# Altium footprint library HEBoard_ver4.PcbLib: 5 footprints
Each footprint in its own frame and in the unit in brackets; x right, y up, seen from the top. Pads: shape width x height; smd on the part's side, far side on the other; paste and mask are expansions set on the pad; w line width, h text height; cw(c..) or ccw(c..) is an arc to the next point about the centre after c.
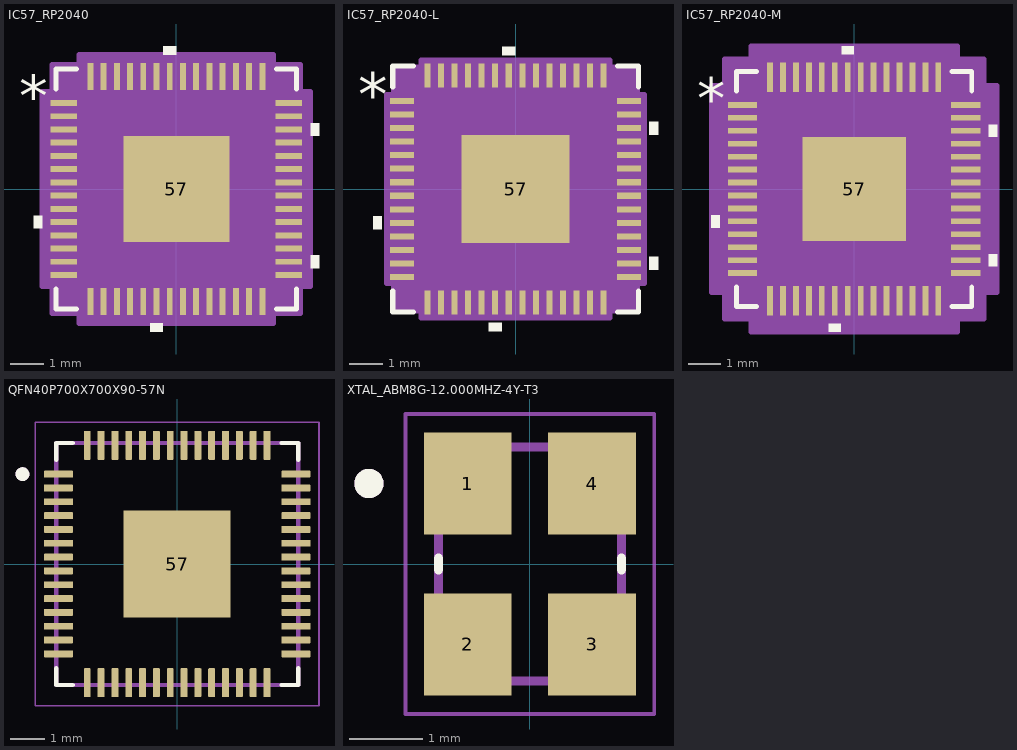
[diagram p0: the footprints below, top view; thin cyan lines are the x and y axes]

## IC57_RP2040 [mm]
pads (57):
  rect 0.808x0.179 smd paste+0 mask+0: 1(-3.401,2.6) 2(-3.401,2.2) 3(-3.401,1.8) 4(-3.401,1.4) 5(-3.401,1) 6(-3.401,0.6) 7(-3.401,0.2) 8(-3.401,-0.2) 9(-3.401,-0.6) 10(-3.401,-1) 11(-3.401,-1.4) 12(-3.401,-1.8) 13(-3.401,-2.2) 14(-3.401,-2.6) 29(3.401,-2.6) 30(3.401,-2.2) 31(3.401,-1.8) 32(3.401,-1.4) 33(3.401,-1) 34(3.401,-0.6) 35(3.401,-0.2) 36(3.401,0.2) 37(3.401,0.6) 38(3.401,1) 39(3.401,1.4) 40(3.401,1.8) 41(3.401,2.2) 42(3.401,2.6)
  rect 0.179x0.808 smd paste+0 mask+0: 15(-2.6,-3.401) 16(-2.2,-3.401) 17(-1.8,-3.401) 18(-1.4,-3.401) 19(-1,-3.401) 20(-0.6,-3.401) 21(-0.2,-3.401) 22(0.2,-3.401) 23(0.6,-3.401) 24(1,-3.401) 25(1.4,-3.401) 26(1.8,-3.401) 27(2.2,-3.401) 28(2.6,-3.401) 43(2.6,3.401) 44(2.2,3.401) 45(1.8,3.401) 46(1.4,3.401) 47(1,3.401) 48(0.6,3.401) 49(0.2,3.401) 50(-0.2,3.401) 51(-0.6,3.401) 52(-1,3.401) 53(-1.4,3.401) 54(-1.8,3.401) 55(-2.2,3.401) 56(-2.6,3.401)
  rect 3.2x3.2 smd paste-1.6 mask+0: 57(0,0)
Top Overlay:
  region: -4.059,-0.81 -4.313,-0.81 -4.313,-1.191 -4.059,-1.191
  region: -0.409,-4.059 -0.79,-4.059 -0.79,-4.313 -0.409,-4.313
  region: 4.059,-2.01 4.313,-2.01 4.313,-2.391 4.059,-2.391
  region: 4.059,1.99 4.313,1.99 4.313,1.609 4.059,1.609
  region: -0.009,4.059 -0.39,4.059 -0.39,4.313 -0.009,4.313
  lines w0.152: -3.632,-3.022 -3.632,-3.632 -3.022,-3.632 ; -3.632,3.022 -3.632,3.632 -3.022,3.632 ; 3.022,-3.632 3.632,-3.632 3.632,-3.022 ; 3.022,3.632 3.632,3.632 3.632,3.022
  text "*" at -4.758,2.165 h1.27
Top Paste:
  region: -0.1,1.5 -1.5,1.5 -1.5,0.1 -0.1,0.1
  region: -0.1,-0.1 -1.5,-0.1 -1.5,-1.5 -0.1,-1.5
  region: 1.5,1.5 0.1,1.5 0.1,0.1 1.5,0.1
  region: 1.5,-0.1 0.1,-0.1 0.1,-1.5 1.5,-1.5
Mechanical 13:
  lines w0.025: -3.505,2.235 -2.235,3.505 ; -3.505,-3.505 3.505,-3.505 3.505,3.505 -3.505,3.505 -3.505,-3.505 ; -3.505,-2.714 -3.505,-2.486 -3.505,-2.714 ; -3.505,-2.314 -3.505,-2.086 -3.505,-2.314 ; -3.505,-1.914 -3.505,-1.686 -3.505,-1.914 ; -3.505,-1.514 -3.505,-1.286 -3.505,-1.514 ; -3.505,-1.114 -3.505,-0.886 -3.505,-1.114 ; -3.505,-0.714 -3.505,-0.486 -3.505,-0.714 ; -3.505,-0.314 -3.505,-0.086 -3.505,-0.314 ; -3.505,0.086 -3.505,0.314 -3.505,0.086 ; -3.505,0.486 -3.505,0.714 -3.505,0.486 ; -3.505,0.886 -3.505,1.114 -3.505,0.886 ; -3.505,1.286 -3.505,1.514 -3.505,1.286 ; -3.505,1.686 -3.505,1.914 -3.505,1.686 ; -3.505,2.086 -3.505,2.314 -3.505,2.086 ; -3.505,2.486 -3.505,2.714 -3.505,2.486 ; -2.714,-3.505 -2.486,-3.505 -2.714,-3.505 ; -2.714,3.505 -2.486,3.505 -2.714,3.505 ; -2.314,-3.505 -2.086,-3.505 -2.314,-3.505 ; -2.314,3.505 -2.086,3.505 -2.314,3.505 ; -1.914,-3.505 -1.686,-3.505 -1.914,-3.505 ; -1.914,3.505 -1.686,3.505 -1.914,3.505 ; -1.514,-3.505 -1.286,-3.505 -1.514,-3.505 ; -1.514,3.505 -1.286,3.505 -1.514,3.505 ; -1.114,-3.505 -0.886,-3.505 -1.114,-3.505 ; -1.114,3.505 -0.886,3.505 -1.114,3.505 ; -0.714,-3.505 -0.486,-3.505 -0.714,-3.505 ; -0.714,3.505 -0.486,3.505 -0.714,3.505 ; -0.314,-3.505 -0.086,-3.505 -0.314,-3.505 ; -0.314,3.505 -0.086,3.505 -0.314,3.505 ; 0.086,-3.505 0.314,-3.505 0.086,-3.505 ; 0.086,3.505 0.314,3.505 0.086,3.505 ; 0.486,-3.505 0.714,-3.505 0.486,-3.505 ; 0.486,3.505 0.714,3.505 0.486,3.505 ; 0.886,-3.505 1.114,-3.505 0.886,-3.505 ; 0.886,3.505 1.114,3.505 0.886,3.505 ; 1.286,-3.505 1.514,-3.505 1.286,-3.505 ; 1.286,3.505 1.514,3.505 1.286,3.505 ; 1.686,-3.505 1.914,-3.505 1.686,-3.505 ; 1.686,3.505 1.914,3.505 1.686,3.505 ; 2.086,-3.505 2.314,-3.505 2.086,-3.505 ; 2.086,3.505 2.314,3.505 2.086,3.505 ; 2.486,-3.505 2.714,-3.505 2.486,-3.505 ; 2.486,3.505 2.714,3.505 2.486,3.505 ; 3.505,-2.714 3.505,-2.486 3.505,-2.714 ; 3.505,-2.314 3.505,-2.086 3.505,-2.314 ; 3.505,-1.914 3.505,-1.686 3.505,-1.914 ; 3.505,-1.514 3.505,-1.286 3.505,-1.514 ; 3.505,-1.114 3.505,-0.886 3.505,-1.114 ; 3.505,-0.714 3.505,-0.486 3.505,-0.714 ; 3.505,-0.314 3.505,-0.086 3.505,-0.314 ; 3.505,0.086 3.505,0.314 3.505,0.086 ; 3.505,0.486 3.505,0.714 3.505,0.486 ; 3.505,0.886 3.505,1.114 3.505,0.886 ; 3.505,1.286 3.505,1.514 3.505,1.286 ; 3.505,1.686 3.505,1.914 3.505,1.686 ; 3.505,2.086 3.505,2.314 3.505,2.086 ; 3.505,2.486 3.505,2.714 3.505,2.486
  text "*" at -3.315,2.165 h1.27
Mechanical 15:
  region: -2.943,-3.759 -3.759,-3.759 -3.759,-2.943 -4.059,-2.943 -4.059,2.943 -3.759,2.943 -3.759,3.759 -2.943,3.759 -2.943,4.059 2.943,4.059 2.943,3.759 3.759,3.759 3.759,2.943 4.059,2.943 4.059,-2.943 3.759,-2.943 3.759,-3.759 2.943,-3.759 2.943,-4.059 -2.943,-4.059
  lines w0.152: -4.059,-2.943 -3.759,-2.943 -3.759,-3.759 -2.943,-3.759 -2.943,-4.059 2.943,-4.059 2.943,-3.759 3.759,-3.759 3.759,-2.943 4.059,-2.943 4.059,2.943 3.759,2.943 3.759,3.759 2.943,3.759 2.943,4.059 -2.943,4.059 -2.943,3.759 -3.759,3.759 -3.759,2.943 -4.059,2.943 -4.059,-2.943
3D body "IC57_RP2040.step": height 0.89, standoff 0, extent -3.505,-3.505 3.505,3.505

## IC57_RP2040-L [mm]
pads (57):
  rect 0.708x0.179 smd paste+0 mask+0: 1(-3.351,2.6) 2(-3.351,2.2) 3(-3.351,1.8) 4(-3.351,1.4) 5(-3.351,1) 6(-3.351,0.6) 7(-3.351,0.2) 8(-3.351,-0.2) 9(-3.351,-0.6) 10(-3.351,-1) 11(-3.351,-1.4) 12(-3.351,-1.8) 13(-3.351,-2.2) 14(-3.351,-2.6) 29(3.351,-2.6) 30(3.351,-2.2) 31(3.351,-1.8) 32(3.351,-1.4) 33(3.351,-1) 34(3.351,-0.6) 35(3.351,-0.2) 36(3.351,0.2) 37(3.351,0.6) 38(3.351,1) 39(3.351,1.4) 40(3.351,1.8) 41(3.351,2.2) 42(3.351,2.6)
  rect 0.179x0.708 smd paste+0 mask+0: 15(-2.6,-3.351) 16(-2.2,-3.351) 17(-1.8,-3.351) 18(-1.4,-3.351) 19(-1,-3.351) 20(-0.6,-3.351) 21(-0.2,-3.351) 22(0.2,-3.351) 23(0.6,-3.351) 24(1,-3.351) 25(1.4,-3.351) 26(1.8,-3.351) 27(2.2,-3.351) 28(2.6,-3.351) 43(2.6,3.351) 44(2.2,3.351) 45(1.8,3.351) 46(1.4,3.351) 47(1,3.351) 48(0.6,3.351) 49(0.2,3.351) 50(-0.2,3.351) 51(-0.6,3.351) 52(-1,3.351) 53(-1.4,3.351) 54(-1.8,3.351) 55(-2.2,3.351) 56(-2.6,3.351)
  rect 3.2x3.2 smd paste-1.6 mask+0: 57(0,0)
Top Overlay:
  region: -3.959,-0.81 -4.213,-0.81 -4.213,-1.191 -3.959,-1.191
  region: -0.409,-3.959 -0.79,-3.959 -0.79,-4.213 -0.409,-4.213
  region: 3.959,-2.01 4.213,-2.01 4.213,-2.391 3.959,-2.391
  region: 3.959,1.99 4.213,1.99 4.213,1.609 3.959,1.609
  region: -0.009,3.959 -0.39,3.959 -0.39,4.213 -0.009,4.213
  lines w0.152: -3.632,-3.022 -3.632,-3.632 -3.022,-3.632 ; -3.632,3.022 -3.632,3.632 -3.022,3.632 ; 3.022,-3.632 3.632,-3.632 3.632,-3.022 ; 3.022,3.632 3.632,3.632 3.632,3.022
  text "*" at -4.658,2.165 h1.27
Top Paste:
  region: -0.1,1.5 -1.5,1.5 -1.5,0.1 -0.1,0.1
  region: -0.1,-0.1 -1.5,-0.1 -1.5,-1.5 -0.1,-1.5
  region: 1.5,1.5 0.1,1.5 0.1,0.1 1.5,0.1
  region: 1.5,-0.1 0.1,-0.1 0.1,-1.5 1.5,-1.5
Mechanical 13:
  lines w0.025: -3.505,2.235 -2.235,3.505 ; -3.505,-3.505 3.505,-3.505 3.505,3.505 -3.505,3.505 -3.505,-3.505 ; -3.505,-2.714 -3.505,-2.486 -3.505,-2.714 ; -3.505,-2.314 -3.505,-2.086 -3.505,-2.314 ; -3.505,-1.914 -3.505,-1.686 -3.505,-1.914 ; -3.505,-1.514 -3.505,-1.286 -3.505,-1.514 ; -3.505,-1.114 -3.505,-0.886 -3.505,-1.114 ; -3.505,-0.714 -3.505,-0.486 -3.505,-0.714 ; -3.505,-0.314 -3.505,-0.086 -3.505,-0.314 ; -3.505,0.086 -3.505,0.314 -3.505,0.086 ; -3.505,0.486 -3.505,0.714 -3.505,0.486 ; -3.505,0.886 -3.505,1.114 -3.505,0.886 ; -3.505,1.286 -3.505,1.514 -3.505,1.286 ; -3.505,1.686 -3.505,1.914 -3.505,1.686 ; -3.505,2.086 -3.505,2.314 -3.505,2.086 ; -3.505,2.486 -3.505,2.714 -3.505,2.486 ; -2.714,-3.505 -2.486,-3.505 -2.714,-3.505 ; -2.714,3.505 -2.486,3.505 -2.714,3.505 ; -2.314,-3.505 -2.086,-3.505 -2.314,-3.505 ; -2.314,3.505 -2.086,3.505 -2.314,3.505 ; -1.914,-3.505 -1.686,-3.505 -1.914,-3.505 ; -1.914,3.505 -1.686,3.505 -1.914,3.505 ; -1.514,-3.505 -1.286,-3.505 -1.514,-3.505 ; -1.514,3.505 -1.286,3.505 -1.514,3.505 ; -1.114,-3.505 -0.886,-3.505 -1.114,-3.505 ; -1.114,3.505 -0.886,3.505 -1.114,3.505 ; -0.714,-3.505 -0.486,-3.505 -0.714,-3.505 ; -0.714,3.505 -0.486,3.505 -0.714,3.505 ; -0.314,-3.505 -0.086,-3.505 -0.314,-3.505 ; -0.314,3.505 -0.086,3.505 -0.314,3.505 ; 0.086,-3.505 0.314,-3.505 0.086,-3.505 ; 0.086,3.505 0.314,3.505 0.086,3.505 ; 0.486,-3.505 0.714,-3.505 0.486,-3.505 ; 0.486,3.505 0.714,3.505 0.486,3.505 ; 0.886,-3.505 1.114,-3.505 0.886,-3.505 ; 0.886,3.505 1.114,3.505 0.886,3.505 ; 1.286,-3.505 1.514,-3.505 1.286,-3.505 ; 1.286,3.505 1.514,3.505 1.286,3.505 ; 1.686,-3.505 1.914,-3.505 1.686,-3.505 ; 1.686,3.505 1.914,3.505 1.686,3.505 ; 2.086,-3.505 2.314,-3.505 2.086,-3.505 ; 2.086,3.505 2.314,3.505 2.086,3.505 ; 2.486,-3.505 2.714,-3.505 2.486,-3.505 ; 2.486,3.505 2.714,3.505 2.486,3.505 ; 3.505,-2.714 3.505,-2.486 3.505,-2.714 ; 3.505,-2.314 3.505,-2.086 3.505,-2.314 ; 3.505,-1.914 3.505,-1.686 3.505,-1.914 ; 3.505,-1.514 3.505,-1.286 3.505,-1.514 ; 3.505,-1.114 3.505,-0.886 3.505,-1.114 ; 3.505,-0.714 3.505,-0.486 3.505,-0.714 ; 3.505,-0.314 3.505,-0.086 3.505,-0.314 ; 3.505,0.086 3.505,0.314 3.505,0.086 ; 3.505,0.486 3.505,0.714 3.505,0.486 ; 3.505,0.886 3.505,1.114 3.505,0.886 ; 3.505,1.286 3.505,1.514 3.505,1.286 ; 3.505,1.686 3.505,1.914 3.505,1.686 ; 3.505,2.086 3.505,2.314 3.505,2.086 ; 3.505,2.486 3.505,2.714 3.505,2.486
  text "*" at -3.315,2.165 h1.27
Mechanical 15:
  region: -2.791,-3.607 -3.607,-3.607 -3.607,-2.791 -3.807,-2.791 -3.807,2.791 -3.607,2.791 -3.607,3.607 -2.791,3.607 -2.791,3.807 2.791,3.807 2.791,3.607 3.607,3.607 3.607,2.791 3.807,2.791 3.807,-2.791 3.607,-2.791 3.607,-3.607 2.791,-3.607 2.791,-3.807 -2.791,-3.807
  lines w0.152: -3.807,-2.791 -3.607,-2.791 -3.607,-3.607 -2.791,-3.607 -2.791,-3.807 2.791,-3.807 2.791,-3.607 3.607,-3.607 3.607,-2.791 3.807,-2.791 3.807,2.791 3.607,2.791 3.607,3.607 2.791,3.607 2.791,3.807 -2.791,3.807 -2.791,3.607 -3.607,3.607 -3.607,2.791 -3.807,2.791 -3.807,-2.791
3D body "IC57_RP2040.step": height 0.89, standoff 0, extent -3.505,-3.505 3.505,3.505

## IC57_RP2040-M [mm]
pads (57):
  rect 0.908x0.179 smd paste+0 mask+0: 1(-3.451,2.6) 2(-3.451,2.2) 3(-3.451,1.8) 4(-3.451,1.4) 5(-3.451,1) 6(-3.451,0.6) 7(-3.451,0.2) 8(-3.451,-0.2) 9(-3.451,-0.6) 10(-3.451,-1) 11(-3.451,-1.4) 12(-3.451,-1.8) 13(-3.451,-2.2) 14(-3.451,-2.6) 29(3.451,-2.6) 30(3.451,-2.2) 31(3.451,-1.8) 32(3.451,-1.4) 33(3.451,-1) 34(3.451,-0.6) 35(3.451,-0.2) 36(3.451,0.2) 37(3.451,0.6) 38(3.451,1) 39(3.451,1.4) 40(3.451,1.8) 41(3.451,2.2) 42(3.451,2.6)
  rect 0.179x0.908 smd paste+0 mask+0: 15(-2.6,-3.451) 16(-2.2,-3.451) 17(-1.8,-3.451) 18(-1.4,-3.451) 19(-1,-3.451) 20(-0.6,-3.451) 21(-0.2,-3.451) 22(0.2,-3.451) 23(0.6,-3.451) 24(1,-3.451) 25(1.4,-3.451) 26(1.8,-3.451) 27(2.2,-3.451) 28(2.6,-3.451) 43(2.6,3.451) 44(2.2,3.451) 45(1.8,3.451) 46(1.4,3.451) 47(1,3.451) 48(0.6,3.451) 49(0.2,3.451) 50(-0.2,3.451) 51(-0.6,3.451) 52(-1,3.451) 53(-1.4,3.451) 54(-1.8,3.451) 55(-2.2,3.451) 56(-2.6,3.451)
  rect 3.2x3.2 smd paste-1.6 mask+0: 57(0,0)
Top Overlay:
  region: -0.009,4.159 -0.39,4.159 -0.39,4.413 -0.009,4.413
  region: 4.159,1.99 4.413,1.99 4.413,1.609 4.159,1.609
  region: 4.159,-2.01 4.413,-2.01 4.413,-2.391 4.159,-2.391
  region: -0.409,-4.159 -0.79,-4.159 -0.79,-4.413 -0.409,-4.413
  region: -4.159,-0.81 -4.413,-0.81 -4.413,-1.191 -4.159,-1.191
  lines w0.152: -3.632,-3.022 -3.632,-3.632 -3.022,-3.632 ; -3.632,3.022 -3.632,3.632 -3.022,3.632 ; 3.022,-3.632 3.632,-3.632 3.632,-3.022 ; 3.022,3.632 3.632,3.632 3.632,3.022
  text "*" at -4.858,2.165 h1.27
Top Paste:
  region: 1.5,-0.1 0.1,-0.1 0.1,-1.5 1.5,-1.5
  region: 1.5,1.5 0.1,1.5 0.1,0.1 1.5,0.1
  region: -0.1,-0.1 -1.5,-0.1 -1.5,-1.5 -0.1,-1.5
  region: -0.1,1.5 -1.5,1.5 -1.5,0.1 -0.1,0.1
Mechanical 13:
  lines w0.025: -3.505,2.235 -2.235,3.505 ; -3.505,-3.505 -3.505,3.505 3.505,3.505 3.505,-3.505 -3.505,-3.505 ; -3.505,-2.714 -3.505,-2.486 -3.505,-2.714 ; -3.505,-2.314 -3.505,-2.086 -3.505,-2.314 ; -3.505,-1.914 -3.505,-1.686 -3.505,-1.914 ; -3.505,-1.514 -3.505,-1.286 -3.505,-1.514 ; -3.505,-1.114 -3.505,-0.886 -3.505,-1.114 ; -3.505,-0.714 -3.505,-0.486 -3.505,-0.714 ; -3.505,-0.314 -3.505,-0.086 -3.505,-0.314 ; -3.505,0.086 -3.505,0.314 -3.505,0.086 ; -3.505,0.486 -3.505,0.714 -3.505,0.486 ; -3.505,0.886 -3.505,1.114 -3.505,0.886 ; -3.505,1.286 -3.505,1.514 -3.505,1.286 ; -3.505,1.686 -3.505,1.914 -3.505,1.686 ; -3.505,2.086 -3.505,2.314 -3.505,2.086 ; -3.505,2.486 -3.505,2.714 -3.505,2.486 ; -2.714,-3.505 -2.486,-3.505 -2.714,-3.505 ; -2.714,3.505 -2.486,3.505 -2.714,3.505 ; -2.314,-3.505 -2.086,-3.505 -2.314,-3.505 ; -2.314,3.505 -2.086,3.505 -2.314,3.505 ; -1.914,-3.505 -1.686,-3.505 -1.914,-3.505 ; -1.914,3.505 -1.686,3.505 -1.914,3.505 ; -1.514,-3.505 -1.286,-3.505 -1.514,-3.505 ; -1.514,3.505 -1.286,3.505 -1.514,3.505 ; -1.114,-3.505 -0.886,-3.505 -1.114,-3.505 ; -1.114,3.505 -0.886,3.505 -1.114,3.505 ; -0.714,-3.505 -0.486,-3.505 -0.714,-3.505 ; -0.714,3.505 -0.486,3.505 -0.714,3.505 ; -0.314,-3.505 -0.086,-3.505 -0.314,-3.505 ; -0.314,3.505 -0.086,3.505 -0.314,3.505 ; 0.086,-3.505 0.314,-3.505 0.086,-3.505 ; 0.086,3.505 0.314,3.505 0.086,3.505 ; 0.486,-3.505 0.714,-3.505 0.486,-3.505 ; 0.486,3.505 0.714,3.505 0.486,3.505 ; 0.886,-3.505 1.114,-3.505 0.886,-3.505 ; 0.886,3.505 1.114,3.505 0.886,3.505 ; 1.286,-3.505 1.514,-3.505 1.286,-3.505 ; 1.286,3.505 1.514,3.505 1.286,3.505 ; 1.686,-3.505 1.914,-3.505 1.686,-3.505 ; 1.686,3.505 1.914,3.505 1.686,3.505 ; 2.086,-3.505 2.314,-3.505 2.086,-3.505 ; 2.086,3.505 2.314,3.505 2.086,3.505 ; 2.486,-3.505 2.714,-3.505 2.486,-3.505 ; 2.486,3.505 2.714,3.505 2.486,3.505 ; 3.505,-2.714 3.505,-2.486 3.505,-2.714 ; 3.505,-2.314 3.505,-2.086 3.505,-2.314 ; 3.505,-1.914 3.505,-1.686 3.505,-1.914 ; 3.505,-1.514 3.505,-1.286 3.505,-1.514 ; 3.505,-1.114 3.505,-0.886 3.505,-1.114 ; 3.505,-0.714 3.505,-0.486 3.505,-0.714 ; 3.505,-0.314 3.505,-0.086 3.505,-0.314 ; 3.505,0.086 3.505,0.314 3.505,0.086 ; 3.505,0.486 3.505,0.714 3.505,0.486 ; 3.505,0.886 3.505,1.114 3.505,0.886 ; 3.505,1.286 3.505,1.514 3.505,1.286 ; 3.505,1.686 3.505,1.914 3.505,1.686 ; 3.505,2.086 3.505,2.314 3.505,2.086 ; 3.505,2.486 3.505,2.714 3.505,2.486
  text "*" at -3.315,2.165 h1.27
Mechanical 15:
  region: -3.197,-4.013 -4.013,-4.013 -4.013,-3.197 -4.413,-3.197 -4.413,3.197 -4.013,3.197 -4.013,4.013 -3.197,4.013 -3.197,4.413 3.197,4.413 3.197,4.013 4.013,4.013 4.013,3.197 4.413,3.197 4.413,-3.197 4.013,-3.197 4.013,-4.013 3.197,-4.013 3.197,-4.413 -3.197,-4.413
  lines w0.152: -4.413,-3.197 -4.413,3.197 -4.013,3.197 -4.013,4.013 -3.197,4.013 -3.197,4.413 3.197,4.413 3.197,4.013 4.013,4.013 4.013,3.197 4.413,3.197 4.413,-3.197 4.013,-3.197 4.013,-4.013 3.197,-4.013 3.197,-4.413 -3.197,-4.413 -3.197,-4.013 -4.013,-4.013 -4.013,-3.197 -4.413,-3.197
3D body "IC57_RP2040.step": height 0.89, standoff 0, extent -3.505,-3.505 3.505,3.505

## QFN40P700X700X90-57N [mm]
height 0.9
pads (57):
  rrect25% 0.84x0.2 smd: 1(-3.435,2.6) 2(-3.435,2.2) 3(-3.435,1.8) 4(-3.435,1.4) 5(-3.435,1) 6(-3.435,0.6) 7(-3.435,0.2) 8(-3.435,-0.2) 9(-3.435,-0.6) 10(-3.435,-1) 11(-3.435,-1.4) 12(-3.435,-1.8) 13(-3.435,-2.2) 14(-3.435,-2.6) 29(3.435,-2.6) 30(3.435,-2.2) 31(3.435,-1.8) 32(3.435,-1.4) 33(3.435,-1) 34(3.435,-0.6) 35(3.435,-0.2) 36(3.435,0.2) 37(3.435,0.6) 38(3.435,1) 39(3.435,1.4) 40(3.435,1.8) 41(3.435,2.2) 42(3.435,2.6)
  rrect25% 0.2x0.84 smd: 15(-2.6,-3.435) 16(-2.2,-3.435) 17(-1.8,-3.435) 18(-1.4,-3.435) 19(-1,-3.435) 20(-0.6,-3.435) 21(-0.2,-3.435) 22(0.2,-3.435) 23(0.6,-3.435) 24(1,-3.435) 25(1.4,-3.435) 26(1.8,-3.435) 27(2.2,-3.435) 28(2.6,-3.435) 43(2.6,3.435) 44(2.2,3.435) 45(1.8,3.435) 46(1.4,3.435) 47(1,3.435) 48(0.6,3.435) 49(0.2,3.435) 50(-0.2,3.435) 51(-0.6,3.435) 52(-1,3.435) 53(-1.4,3.435) 54(-1.8,3.435) 55(-2.2,3.435) 56(-2.6,3.435)
  rect 3.1x3.1 smd paste-0.57: 57(0,0)
Top Overlay:
  circle w0.2: c-4.475,2.6 r0.1
  lines w0.127: -3.5,-3.02 -3.5,-3.5 -3.02,-3.5 ; -3.5,3.02 -3.5,3.5 -3.02,3.5 ; 3.02,-3.5 3.5,-3.5 3.5,-3.02 ; 3.02,3.5 3.5,3.5 3.5,3.02
Mechanical 13:
  circle w0.2: c-4.475,2.6 r0.1
  lines w0.127: -3.5,-3.5 3.5,-3.5 3.5,3.5 -3.5,3.5 -3.5,-3.5
Mechanical 15:
  lines w0.05: -4.105,-4.105 4.105,-4.105 4.105,4.105 -4.105,4.105 -4.105,-4.105
3D body "step_temp.STEP": height 0.9, standoff 0, extent -3.5,-3.5 3.5,3.5

## XTAL_ABM8G-12.000MHZ-4Y-T3 [mm]
height 1
pads (4):
  rect 1.2x1.4 smd: 1(-0.85,1.1) 2(-0.85,-1.1) 3(0.85,-1.1) 4(0.85,1.1)
Top Overlay:
  circle w0.2: c-2.2,1.1 r0.1
  lines w0.127: -1.25,-0.08 -1.25,0.08 ; 1.25,-0.08 1.25,0.08
Mechanical 13:
  circle w0.2: c-2.2,1.1 r0.1
  lines w0.127: -1.25,-1.6 1.25,-1.6 1.25,1.6 -1.25,1.6 -1.25,-1.6
Mechanical 15:
  lines w0.05: -1.7,-2.05 1.7,-2.05 1.7,2.05 -1.7,2.05 -1.7,-2.05
3D body "step_temp.STEP": height 0.99, standoff 0, extent -1.6,-1.245 1.6,1.245